# Altium schematic symbol library mechanical.SchLib: 3 symbols
Pins are listed as number, name and electrical type; pins without a type are passive.

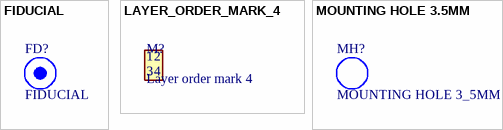
[diagram p0: symbols FIDUCIAL to MOUNTING HOLE 3.5MM]

## FIDUCIAL
designator FD?  (no BOM)
footprint FIDUCIAL_2MM
footprint FIDUCIAL_3MM

## LAYER_ORDER_MARK_4
designator M?, comment Layer order mark 4  (no BOM)
footprint LAYER_ORDER_MARK_4
footprint LAYER_ORDER_MARK_4_1/2Oz
text: 1; 2; 3; 4

## MOUNTING HOLE 3.5MM
designator MH?, comment MOUNTING HOLE 3_5MM  (no BOM)
MOUNTING HOLE 3.5MM
footprint MOUNTING-HOLE-3.5MM